# Altium schematic symbol library TPS28225_D_8.SchLib: 1 symbol
Pins are listed as number, name and electrical type; pins without a type are passive.

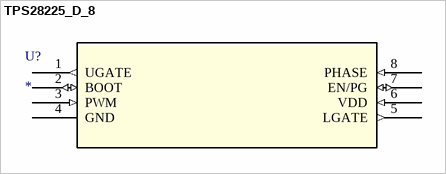
[diagram p0: symbol TPS28225_D_8]

## TPS28225_D_8
designator U?
Imported; Manufacturer_Part_Number: tps28225_d_8; GENERIC_PART_NUMBER: TPS28225; Vendor: Texas Instruments; PACKAGE_DESIGNATOR: D; PIN_COUNT: 8; FAMILY_NAME: MOSFET DRIVER; INDUSTRY_STD_PKG_TYPE: SOIC; Datasheet URL: http://www.ti.com/lit/gpn/TPS28225; Manufacturer: Texas Instruments; RefDes: RefDes; Type: DEV; Value: Value
footprint D8
pins: 1 UGATE (out), 2 BOOT (io), 3 PWM (in), 4 GND (power), 5 LGATE (out), 6 VDD (in), 7 EN/PG (io), 8 PHASE (in)